# Altium schematic symbol library ESP-12.SchLib: 5 symbols
Pins are listed as number, name and electrical type; pins without a type are passive.

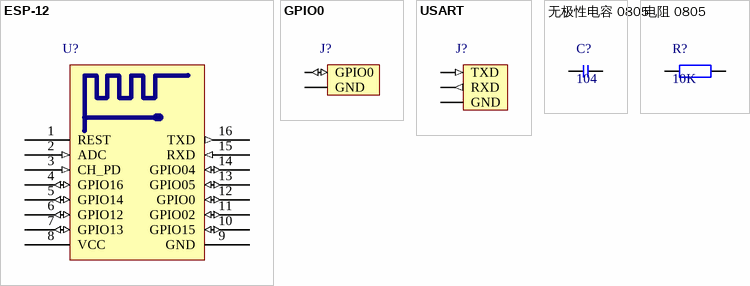
[diagram p0: symbols ESP-12 to 电阻 0805]

## ESP-12
designator U?  (value not drawn)
footprint ESP_12
pins: 1 REST, 2 ADC (in), 3 CH_PD (in), 4 GPIO16 (io), 5 GPIO14 (io), 6 GPIO12 (io), 7 GPIO13 (io), 8 VCC (power), 9 GND (power), 10 GPIO15 (io), 11 GPIO02 (io), 12 GPIO0 (io), 13 GPIO05 (io), 14 GPIO04 (io), 15 RXD (in), 16 TXD (out)

## GPIO0
designator J?  (value not drawn)
pins: 1 GPIO0 (io), 2 GND (power)

## USART
designator J?  (value not drawn)
pins: 1 TXD (in), 2 RXD (out), 3 GND

## 无极性电容 0805
designator C?, comment 104
footprint 0805
pins: 1 0, 2 1

## 电阻 0805
designator R?, comment 10K
footprint 0805
pins: 1 0, 2 1